# Altium schematic symbol library ECS-80-20-20A-TR.SchLib: 1 symbol
Pins are listed as number, name and electrical type; pins without a type are passive.

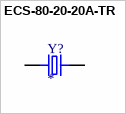
[diagram p0: symbol ECS-80-20-20A-TR]

## ECS-80-20-20A-TR
designator Y?
SMD CRYSTAL; MF: {'manufacturer': u'ECS Inc.'}; MP: ECS-80-20-20A-TR; Package: None; Price: None; Value: *; Availability: Unavailable
footprint XTAL_ECS-80-20-20A-TR
pins: 1, 2